# EAGLE library part MICROMATCH_12POS (library Traficon)
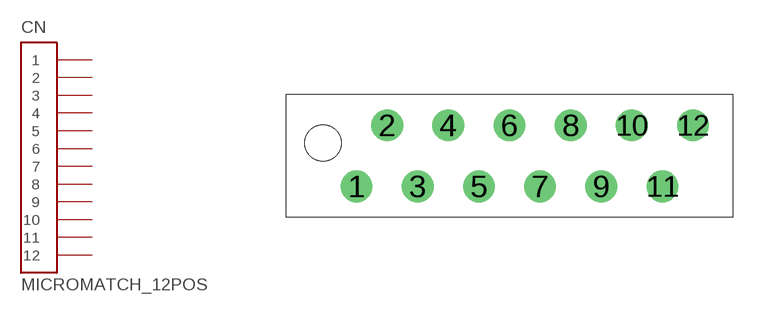
[diagram p33: symbol with the pads of MICROMATCH_12POS; footprint MICROMATCH_12POS]

Designator prefix CN

## MICROMATCH_12POS  [MICROMATCH_12POS]
1  1
2  2
3  3
4  4
5  5
6  6
7  7
8  8
9  9
10  10
11  11
12  12

## Footprint MICROMATCH_12POS (pad centres in mm)
drill 0.813 round: 1 -2.54,-2.54; 2 -1.27,0; 3 0,-2.54; 4 1.27,0; 5 2.54,-2.54; 6 3.81,0; 7 5.08,-2.54; 8 6.35,0; 9 7.62,-2.54; 10 8.89,0; 11 10.16,-2.54; 12 11.43,0
hole 1.5 at -3.94,-0.74